# Altium footprint library Connector.PcbLib: 240 footprints (part 8 of 15)
Each footprint in its own frame and in the unit in brackets; x right, y up, seen from the top. Pads: shape width x height; smd on the part's side, far side on the other; paste and mask are expansions set on the pad; w line width, h text height; cw(c..) or ccw(c..) is an arc to the next point about the centre after c.
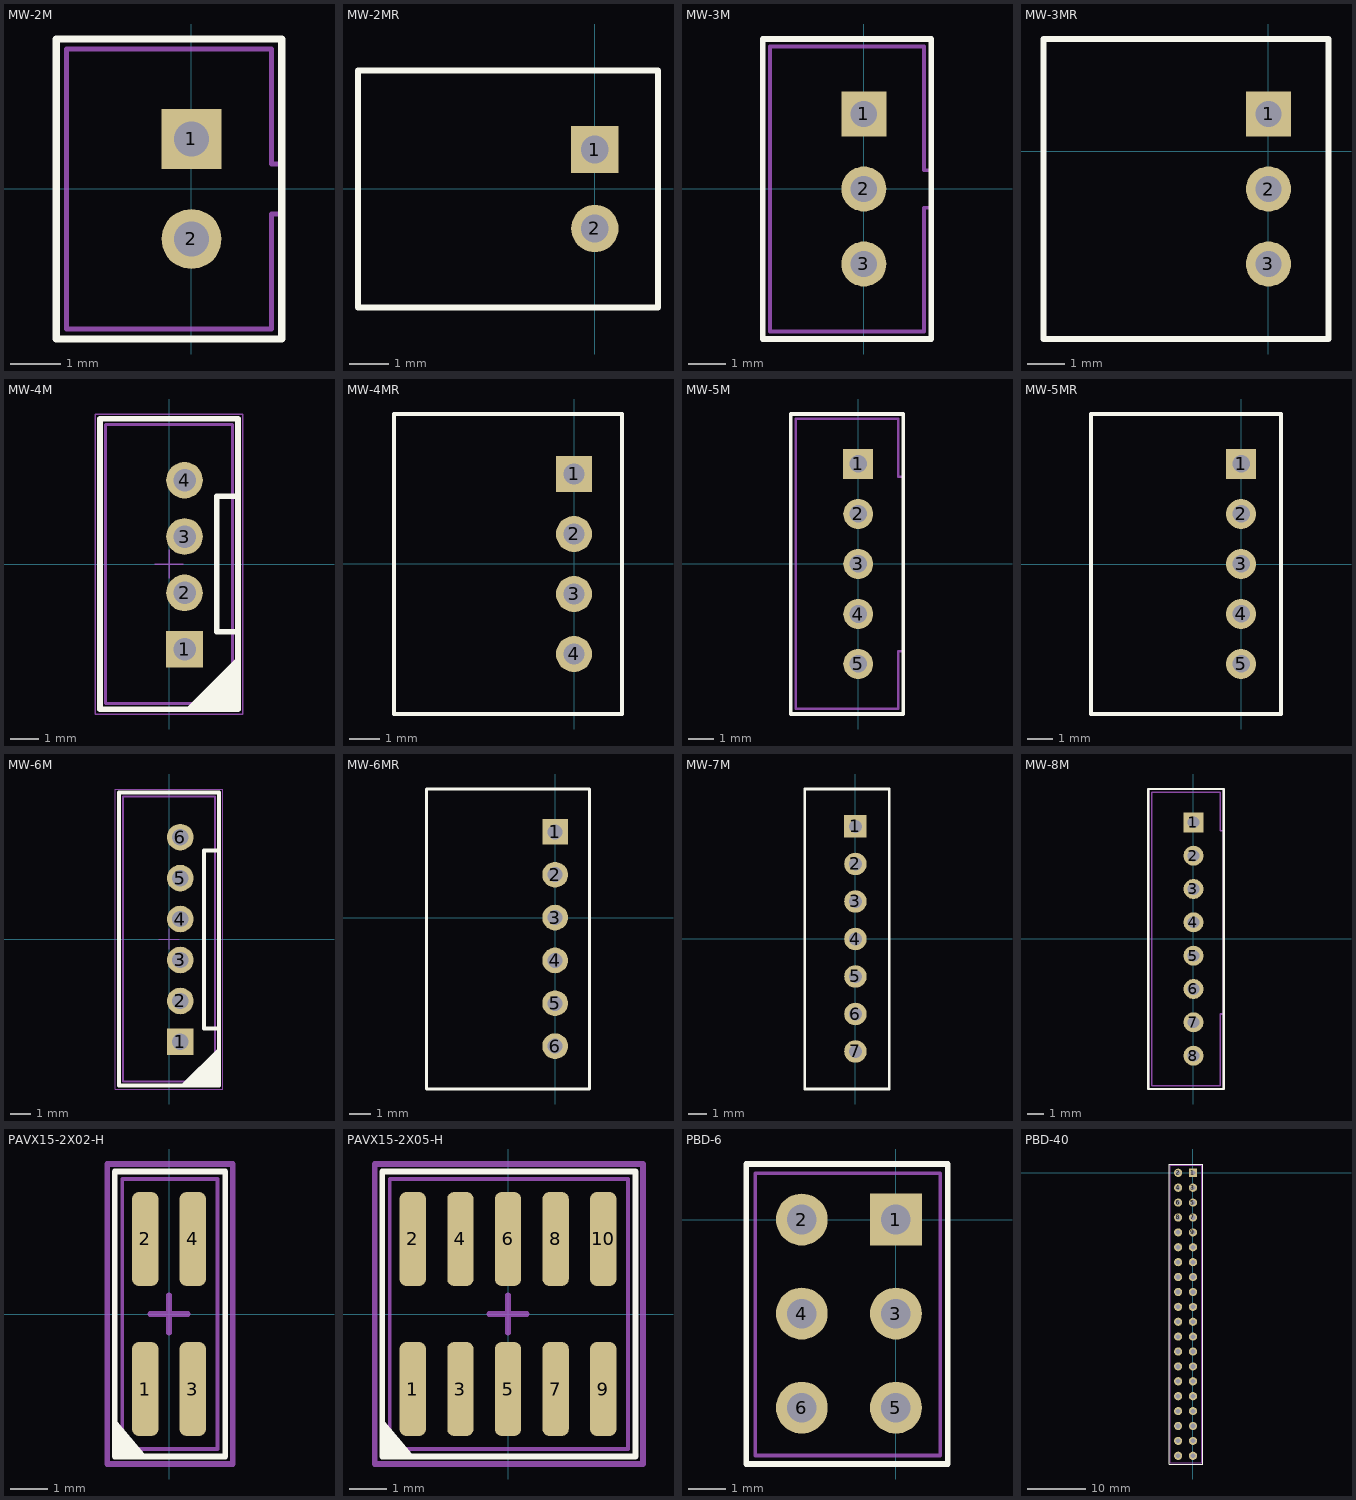
[diagram p7: the footprints below, top view; thin cyan lines are the x and y axes]

## MW-2M [mm]
height 6
pads (2):
  rect 1.2x1.2 hole 0.7: 1(0,1)
  round 1.2 hole 0.7: 2(0,-1)
Top Overlay:
  lines w0.15: -2.7,-3 -2.7,3 1.8,3 1.8,-3 -2.7,-3
Mechanical 9:
  text ".Designator" at -6,5.2 h3
Mechanical 10:
  text ".Comment" at -1.3,3.4 h2
Mechanical 11:
  lines w0.1: 1.79,0.5 1.6,0.5 1.6,2.8 -2.5,2.8 -2.5,-2.8 1.6,-2.8 1.6,-0.5 1.8,-0.5 ; -2.7,-3 1.8,-3 1.8,3 -2.7,3 -2.7,-3
3D body "B2B-PH-K-S.STEP": height 6, standoff -3.4, extent -2.7,-2.95 1.8,2.95

## MW-2MR [mm]
height 4.5
pads (2):
  rect 1.2x1.2 hole 0.7: 1(0,1)
  round 1.2 hole 0.7: 2(0,-1)
Top Overlay:
  lines w0.15: -6,-3 1.6,-3 1.6,3 -6,3 -6,-3
Mechanical 9:
  text ".Designator" at -8.8,5.2 h3.5
Mechanical 10:
  text ".Comment" at -4.1,3.4 h2
Mechanical 11:
  lines w0.1: -6,-3 -6,3 1.6,3 1.6,-3 -6,-3
3D body "S2B-PH-K-S.STEP": height 4.8, standoff -3.4, extent -6,-2.95 1.6,2.95

## MW-3M [mm]
pads (3):
  rect 1.2x1.2 hole 0.7: 1(0,2)
  round 1.2 hole 0.7: 2(0,0) 3(0,-2)
Top Overlay:
  lines w0.15: -2.7,-4 1.8,-4 1.8,4 -2.7,4 -2.7,-4
Mechanical 9:
  text ".Designator" at -6,6.7 h3.5
Mechanical 10:
  text ".Comment" at -2.6,4.5 h2
Mechanical 11:
  lines w0.1: 1.79,0.5 1.6,0.5 1.6,3.8 -2.5,3.8 -2.5,-3.8 1.6,-3.8 1.6,-0.5 1.8,-0.5 ; -2.7,-4 -2.7,4 1.8,4 1.8,-4 -2.7,-4
3D body "B3B-PH-K-S.STEP": height 6, standoff -3.4, extent -2.7,-3.95 1.8,3.95

## MW-3MR [mm]
pads (3):
  rect 1.2x1.2 hole 0.7: 1(0,1)
  round 1.2 hole 0.7: 2(0,-1) 3(0,-3)
Top Overlay:
  lines w0.15: -6,-5 -6,3 1.6,3 1.6,-5 -6,-5
Mechanical 9:
  text ".Designator" at -8,5.7 h3.5
Mechanical 10:
  text ".Comment" at -4.6,3.5 h2
Mechanical 11:
  lines w0.1: -6,-5 1.6,-5 1.6,3 -6,3 -6,-5
3D body "S3B-PH-K-S.STEP": height 4.8, standoff -3.4, extent -6,-4.95 1.6,2.95

## MW-4M [mm] "9.8mm L x 4.8mm W"
height 6
pads (4):
  rect 1.3x1.3 hole 0.8: 1(0.551,-3.025)
  round 1.3 hole 0.8: 2(0.551,-1.025) 3(0.551,0.975) 4(0.551,2.975)
Top Overlay:
  region: 2.45,-5.15 2.45,-3.275 0.575,-5.15
  lines w0.2: 2.418,-2.4 1.7,-2.4 1.7,2.4 2.418,2.4 ; -2.45,-5.15 2.45,-5.15 2.45,5.15 -2.45,5.15 -2.45,-5.15
Mechanical 13:
  lines w0.1: -2.25,-4.95 -2.25,4.95 2.25,4.95 2.25,-4.95 -2.25,-4.95
Mechanical 15:
  lines w0.05: -0.5,0 0.5,0 ; 0,-0.5 0,0.5 ; -2.625,-5.325 2.625,-5.325 2.625,5.325 -2.625,5.325 -2.625,-5.325
3D body "User Library-BxB-PH (1).step": height 6.02, standoff -3.28, extent -2.25,-4.95 2.25,4.95

## MW-4MR [mm]
height 4.5
pads (4):
  rect 1.2x1.2 hole 0.7: 1(0,3)
  round 1.2 hole 0.7: 2(0,1) 3(0,-1) 4(0,-3)
Top Overlay:
  lines w0.15: -6,-5 1.6,-5 1.6,5 -6,5 -6,-5
Mechanical 9:
  text ".Designator" at -7.9,7.7 h3.5
Mechanical 10:
  text ".Comment" at -4.5,5.5 h2
Mechanical 11:
  lines w0.1: -6,-5 -6,5 1.6,5 1.6,-5 -6,-5
3D body "S4B-PH-K-S.STEP": height 4.8, standoff -3.4, extent -6,-4.95 1.6,4.95

## MW-5M [mm]
pads (5):
  rect 1.2x1.2 hole 0.7: 1(0,4)
  round 1.2 hole 0.7: 2(0,2) 3(0,0) 4(0,-2) 5(0,-4)
Top Overlay:
  lines w0.15: -2.7,-6 1.8,-6 1.8,6 -2.7,6 -2.7,-6
Mechanical 9:
  text ".Designator" at -6.1,8.7 h3.5
Mechanical 10:
  text ".Comment" at -2.7,6.5 h2
Mechanical 11:
  lines w0.1: 1.79,-3.5 1.6,-3.5 1.6,-5.8 -2.5,-5.8 -2.5,5.8 1.6,5.8 1.6,3.5 1.79,3.5 ; -2.7,-6 1.8,-6 1.8,6 -2.7,6 -2.7,-6
3D body "B5B-PH-K-S.STEP": height 6, standoff -3.4, extent -2.7,-5.95 1.8,5.95

## MW-5MR [mm]
height 4.5
pads (5):
  rect 1.2x1.2 hole 0.7: 1(0,4)
  round 1.2 hole 0.7: 2(0,2) 3(0,0) 4(0,-2) 5(0,-4)
Top Overlay:
  lines w0.15: -6,-6 1.6,-6 1.6,6 -6,6 -6,-6
Mechanical 9:
  text ".Designator" at -7.9,8.7 h3.5
Mechanical 10:
  text ".Comment" at -4.5,6.5 h2
Mechanical 11:
  lines w0.1: -6,-6 1.6,-6 1.6,6 -6,6 -6,-6
3D body "S5B-PH-K-S.STEP": height 4.8, standoff -3.4, extent -6,-5.95 1.6,5.95

## MW-6M [mm] "13.8mm L x 4.8mm W"
height 6
pads (6):
  rect 1.3x1.3 hole 0.8: 1(0.551,-5.025)
  round 1.3 hole 0.8: 2(0.551,-3.025) 3(0.551,-1.025) 4(0.551,0.975) 5(0.551,2.975) 6(0.551,4.975)
Top Overlay:
  region: 2.45,-7.15 2.45,-5.275 0.575,-7.15
  lines w0.2: 2.418,-4.375 1.7,-4.375 1.7,4.325 2.418,4.325 ; -2.45,-7.15 -2.45,7.15 2.45,7.15 2.45,-7.15 -2.45,-7.15
Mechanical 13:
  lines w0.1: -2.25,-6.95 -2.25,6.95 2.25,6.95 2.25,-6.95 -2.25,-6.95
Mechanical 15:
  lines w0.05: -0.5,0 0.5,0 ; 0,-0.5 0,0.5 ; -2.625,-7.325 -2.625,7.325 2.625,7.325 2.625,-7.325 -2.625,-7.325
3D body "User Library-BxB-PH.step": height 6.02, standoff -3.28, extent -2.25,-6.95 2.25,6.95

## MW-6MR [mm]
pads (6):
  rect 1.2x1.2 hole 0.7: 1(0,4)
  round 1.2 hole 0.7: 2(0,2) 3(0,0) 4(0,-2) 5(0,-4) 6(0,-6)
Top Overlay:
  lines w0.15: -6,-8 1.6,-8 1.6,6 -6,6 -6,-8
Mechanical 9:
  text ".Designator" at -8,8.7 h3.5
Mechanical 10:
  text ".Comment" at -4.6,6.5 h2
Mechanical 11:
  lines w0.1: -6,-8 1.6,-8 1.6,6 -6,6 -6,-8
3D body "S6B-PH-K-S.STEP": height 4.8, standoff -3.4, extent -6,-7.95 1.6,5.95

## MW-7M [mm]
pads (7):
  rect 1.2x1.2 hole 0.7: 1(0,6)
  round 1.2 hole 0.7: 2(0,4) 3(0,2) 4(0,0) 5(0,-2) 6(0,-4) 7(0,-6)
Top Overlay:
  lines w0.15: -2.7,-8 1.8,-8 1.8,8 -2.7,8 -2.7,-8
Mechanical 9:
  text ".Designator" at -6.2,10.7 h3.5
Mechanical 10:
  text ".Comment" at -2.8,8.5 h2
3D body: height 5, standoff 0, extent -2.7,-8 1.8,8

## MW-8M [mm]
pads (8):
  rect 1.2x1.2 hole 0.7: 1(0,7)
  round 1.2 hole 0.7: 2(0,5) 3(0,3) 4(0,1) 5(0,-1) 6(0,-3) 7(0,-5) 8(0,-7)
Top Overlay:
  lines w0.15: -2.7,-9 1.8,-9 1.8,9 -2.7,9 -2.7,-9
Mechanical 9:
  text ".Designator" at -6,11.7 h3.5
Mechanical 10:
  text ".Comment" at -2.6,9.5 h2
Mechanical 11:
  lines w0.1: 1.79,-4.5 1.6,-4.5 1.6,-8.8 -2.5,-8.8 -2.5,8.8 1.6,8.8 1.6,6.5 1.79,6.5 ; -2.7,-9 1.8,-9 1.8,9 -2.7,9 -2.7,-9
3D body "MW-8M.STEP": height 6, standoff -3, extent -2.8,-8.975 1.7,8.925

## PAVX15-2X02-H [mm]
pads (4):
  rrect50% 0.7x2.5 smd: 1(-0.635,-2) 2(-0.635,2) 3(0.635,-2) 4(0.635,2)
Top Overlay:
  region: -1.445,-2.8 -1.445,-3.8 -0.595,-3.8
  lines w0.15: -1.445,-3.8 1.495,-3.8 1.495,3.8 -1.445,3.8 -1.445,-3.8
Mechanical 7:
  lines w0.1: -1.25,-3.6 1.295,-3.6 1.295,3.6 -1.25,3.6 -1.25,-3.6
Mechanical 9:
  text ".Designator" at -5.2,5.4 h3.5
Mechanical 10:
  text ".Comment" at -2.9,-5.6 h2
Mechanical 15:
  lines w0.15: -0.5,0 0.5,0 ; 0,-0.5 0,0.5 ; 1.695,4 -1.645,4 -1.645,-4 1.695,-4 1.695,4 ; 1.695,4 1.695,4
3D body "Деталь14.STEP": height 7.73, standoff -0.04, extent -1.245,-3.6 1.295,3.6

## PAVX15-2X05-H [mm]
pads (10):
  rrect50% 0.7x2.5 smd: 1(-2.54,-2) 2(-2.54,2) 3(-1.27,-2) 4(-1.27,2) 5(0,-2) 6(0,2) 7(1.27,-2) 8(1.27,2) 9(2.54,-2) 10(2.54,2)
Top Overlay:
  region: -3.35,-2.8 -3.35,-3.8 -2.5,-3.8
  region: -3.35,-3
  lines w0.15: -3.35,-3.8 3.4,-3.8 3.4,3.8 -3.35,3.8 -3.35,-3.8
Mechanical 7:
  lines w0.1: -3.155,-3.6 3.2,-3.6 3.2,3.6 -3.155,3.6 -3.155,-3.6
Mechanical 9:
  text ".Designator" at -6.325,4.775 h3.5
Mechanical 10:
  text ".Comment" at -2.9,-5.6 h2
Mechanical 15:
  lines w0.15: -0.5,0 0.5,0 ; 0,-0.5 0,0.5 ; 3.6,4 3.6,-4 -3.55,-4 -3.55,4 3.6,4 ; 3.6,4 3.6,4
3D body "User Library-Harwin_M52-040000S0545_HDRV10W46P254X127_2X5_635X720X777.step": height 7.73, standoff -0.04, extent -3.175,-3.63 3.175,3.57

## PBD-6 [mm]
height 0.05
pads (6):
  rect 1.4x1.4 hole 0.8: 1(0,0)
  round 1.4 hole 0.8: 2(-2.54,0) 3(0,-2.54) 4(-2.54,-2.54) 5(0,-5.08) 6(-2.54,-5.08)
Top Overlay:
  lines w0.15: -4.04,-6.6 -4.04,1.5 1.4,1.5 1.4,-6.6 -4.04,-6.6
Mechanical 7:
  lines w0.1: -3.8,-6.37 -3.8,1.25 1.2,1.25 1.2,-6.37 -3.8,-6.37
Mechanical 9:
  text ".Designator" at -6.15,4.14 h3.5
Mechanical 10:
  text ".Comment" at -3.9,2.14 h2
3D body "User Library-PBD-6.STEP": height 8.55, standoff -2.95, extent -3.8,-6.37 1.2,1.25

## PBD-40 [mm]
height 0.05
pads (40):
  rect 1.4x1.4 hole 0.8: 1(0,0)
  round 1.4 hole 0.8: 2(-2.54,0) 3(0,-2.54) 4(-2.54,-2.54) 5(0,-5.08) 6(-2.54,-5.08) 8(-2.54,-7.62) 9(0,-10.16) 10(-2.54,-10.16) 11(0,-12.7) 12(-2.54,-12.7) 13(0,-15.24) 14(-2.54,-15.24) 15(0,-17.78) 16(-2.54,-17.78) 19(0,-22.86) 20(-2.54,-22.86) 21(0,-25.4) 22(-2.54,-25.4) 23(0,-27.94) 24(-2.54,-27.94) 25(0,-30.48) 26(-2.54,-30.48) 27(0,-33.02) 28(-2.54,-33.02) 31(0,-38.1) 32(-2.54,-38.1) 33(0,-40.64) 34(-2.54,-40.64) 35(0,-43.18) 36(-2.54,-43.18) 39(0,-48.26) 40(-2.54,-48.26)
  round 1.4 hole 0.8 mask+0.102: 7(0,-7.62) 17(0,-20.32) 18(-2.54,-20.32) 29(0,-35.56) 30(-2.54,-35.56) 37(0,-45.72) 38(-2.54,-45.72)
Top Overlay:
  lines w0.15: -4.04,-49.66 1.66,-49.66 1.66,1.5 -4.04,1.5 -4.04,-49.66
Mechanical 7:
  lines w0.1: -3.85,-49.41 1.46,-49.41 1.46,1.25 -3.85,1.25 -3.85,-49.4
Mechanical 10:
  text ".Comment" at -1.44,-7.92 h0.6
  text ".Designator" at -1.34,0.78 h0.8
3D body "User Library-PBS-10.step": height 8.4, standoff -3.2, extent -1.27,-49.53 1.27,-24.13
3D body "User Library-PBS-10.step": height 8.4, standoff -3.2, extent -3.81,-49.53 -1.27,-24.13
3D body "User Library-PBS-10.step": height 8.4, standoff -3.2, extent -1.27,-24.13 1.27,1.27
3D body "User Library-PBS-10.step": height 8.4, standoff -3.2, extent -3.81,-24.13 -1.27,1.27